# Altium schematic symbol library LTV816.SchLib: 1 symbol
Pins are listed as number, name and electrical type; pins without a type are passive.

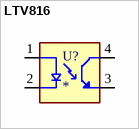
[diagram p0: symbol LTV816]

## LTV816
designator U?
Optoisolator Transistor Output 5000Vrms 1 Channel 4-DIP; MF: Lite-On Inc.; MP: LTV816; SnapEDA_Link: https://www.snapeda.com/parts/LTV816/Lite-On+Inc./view-part/?ref=snap; Availability: In Stock; Price: None; Purchase-URL: https://pricing.snapeda.com/search/part/LTV816/?ref=eda; Check_prices: https://www.snapeda.com/parts/LTV816/Lite-On+Inc./view-part/?ref=eda; Package: PDIP-4 Lite-On; Value: *
footprint DIP762W50P254L460H450Q4
pins: 1 A, 2 C, 3 ET, 4 CT